# EAGLE library part ZXGD3004E6 (library piccoli)
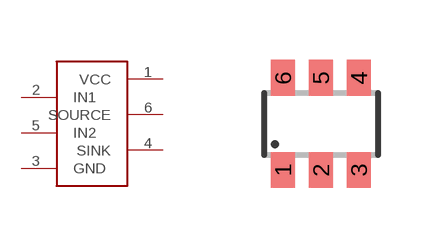
[diagram p4: symbol with the pads of SOT23-6; footprint SOT23-6]

Designator prefix -

## ZXGD3004E6  [SOT23-6]
1  VCC  pwr
2  IN1  in
3  GND  pwr
4  SINK  out
5  IN2  in
6  SOURCE  out

## Footprint SOT23-6 (pad centres in mm)
smd 0.6 x 0.9: 1 -0.95,-1.15; 2 0,-1.15; 3 0.95,-1.15; 4 0.95,1.15; 5 0,1.15; 6 -0.95,1.15